# EAGLE library part GP2Y0A60SZ (library pimoroni-optoelectronics)
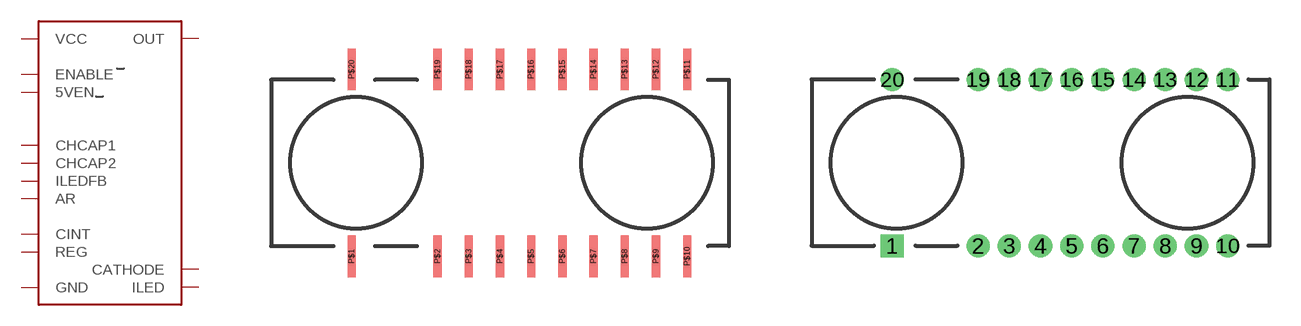
[diagram p3: symbol with the pads of GP2Y0A60SZ0F; footprints GP2Y0A60SZ0F, GP2Y0A60SZLF]

Designator prefix -

## GP2Y0A60SZ0F  [GP2Y0A60SZ0F]
P$1  CATHODE
P$2  GND
P$3  ILEDFB
P$4  5VEN
P$5  AR
P$6  VCC
P$7  ENABLE
P$8  CHCAP1
P$10  REG
P$11  REG
P$13  CHCAP2
P$14  GND
P$15  CINT
P$16  OUT
P$17  GND
P$18  ILED
P$19  GND
P$20  VCC

## GP2Y0A60SZLF  [GP2Y0A60SZLF]
1  CATHODE
2  GND
3  ILEDFB
4  5VEN
5  AR
6  VCC
7  ENABLE
8  CHCAP1
10  REG
11  REG
13  CHCAP2
14  GND
15  CINT
16  OUT
17  GND
18  ILED
19  GND
20  VCC

## Footprint GP2Y0A60SZ0F (pad centres in mm)
smd 0.4 x 2: P$1 -7.13,-4.5; P$2 -3,-4.5; P$3 -1.5,-4.5; P$4 0,-4.5; P$5 1.5,-4.5; P$6 3,-4.5; P$7 4.5,-4.5; P$8 6,-4.5; P$9 7.5,-4.5; P$10 9,-4.5; P$11 9,4.5; P$12 7.5,4.5; P$13 6,4.5; P$14 4.5,4.5; P$15 3,4.5; P$16 1.5,4.5; P$17 0,4.5; P$18 -1.5,4.5; P$19 -3,4.5; P$20 -7.13,4.5

## Footprint GP2Y0A60SZLF (pad centres in mm)
drill 0.6 square: 1 -7.13,-4
drill 0.6: 2 -3,-4; 3 -1.5,-4; 4 0,-4; 5 1.5,-4; 6 3,-4; 7 4.5,-4; 8 6,-4; 9 7.5,-4; 10 9,-4; 11 9,4; 12 7.5,4; 13 6,4; 14 4.5,4; 15 3,4; 16 1.5,4; 17 0,4; 18 -1.5,4; 19 -3,4; 20 -7.13,4